# Altium schematic symbol library mouse_library.SchLib: 5 symbols
Pins are listed as number, name and electrical type; pins without a type are passive.

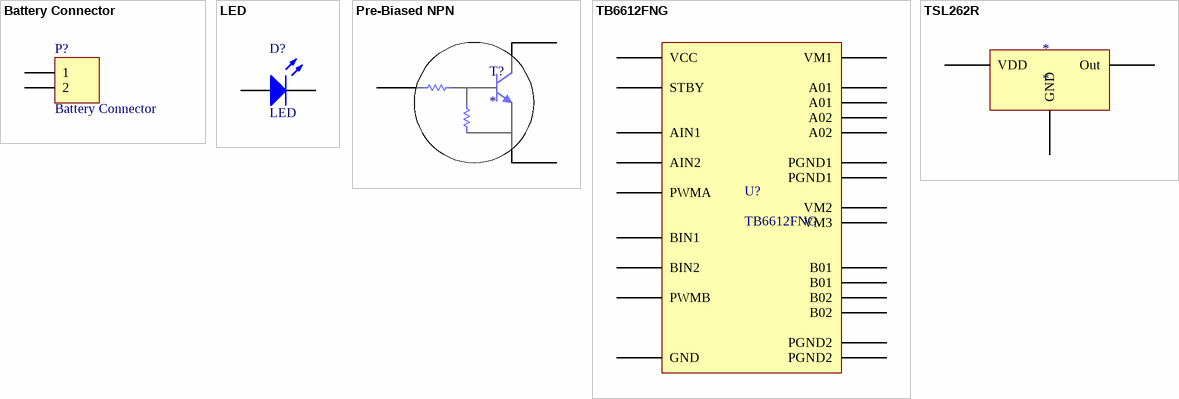
[diagram p0: symbols Battery Connector to TSL262R]

## Battery Connector
designator P?
Header, 2-Pin; LatestRevisionDate: 17-Jul-2002; LatestRevisionNote: Re-released for DXP Platform.; Publisher: Altium Limited
footprint Battery Connector
pins: 1, 2

## LED
designator D?
Typical INFRARED LED; Vendor Part Number: 751-1203-ND; Manufacturer: Vishay; Manufacturer Part Number: TSAL6100; Vendor: Digikey; Published: 16-Mar-2013; LatestRevisionDate: 16-Mar-2013; LatestRevisionNote: Created; PackageReference: LED; Publisher: Anthony Merlino; PackageDescription: 5mm LED; 2 Leads
footprint LED-Bent (LED; 2 Leads)
pins: 1 A, 2 K

## Pre-Biased NPN
designator T?
Manufacturer Part No: DTD743EETL; Vendor Part No: DTD743EETLTR-ND; Vendor: Digikey
footprint SOT-416 (SOT23, 3-Leads, Body 1.6x1.7mm (max), Pitch 0.50mm, IPC Medium Density)
pins: 1, 2, 3

## TB6612FNG
designator U?
Vendor Part No.: TB6612FNG(OC8EL)CT-ND; Manufacturer: Toshiba; Vendor: Digikey; Manufacturer Part No: TB6612FNG
footprint SSOP24-P-300-0.65A (TSOP, 24-Leads, Body 8.3x5.6mm (max), Pitch 0.65mm, IPC Medium Density)
pins: 1 A01, 2 A01, 3 PGND1, 4 PGND1, 5 A02, 6 A02, 7 B02, 8 B02, 9 PGND2, 10 PGND2, 11 B01, 12 B01, 13 VM2, 14 VM3, 15 PWMB, 16 BIN2, 17 BIN1, 18 GND, 19 STBY, 20 VCC, 21 AIN1, 22 AIN2, 23 PWMA, 24 VM1

## TSL262R
designator *
footprint TSL262R (IR Receiver)
pins: 0 GND, 1 VDD, 2 Out